# Altium footprint library inductor_smd.PcbLib: 24 footprints (part 1 of 2)
Each footprint in its own frame and in the unit in brackets; x right, y up, seen from the top. Pads: shape width x height; smd on the part's side, far side on the other; paste and mask are expansions set on the pad; w line width, h text height; cw(c..) or ccw(c..) is an arc to the next point about the centre after c.
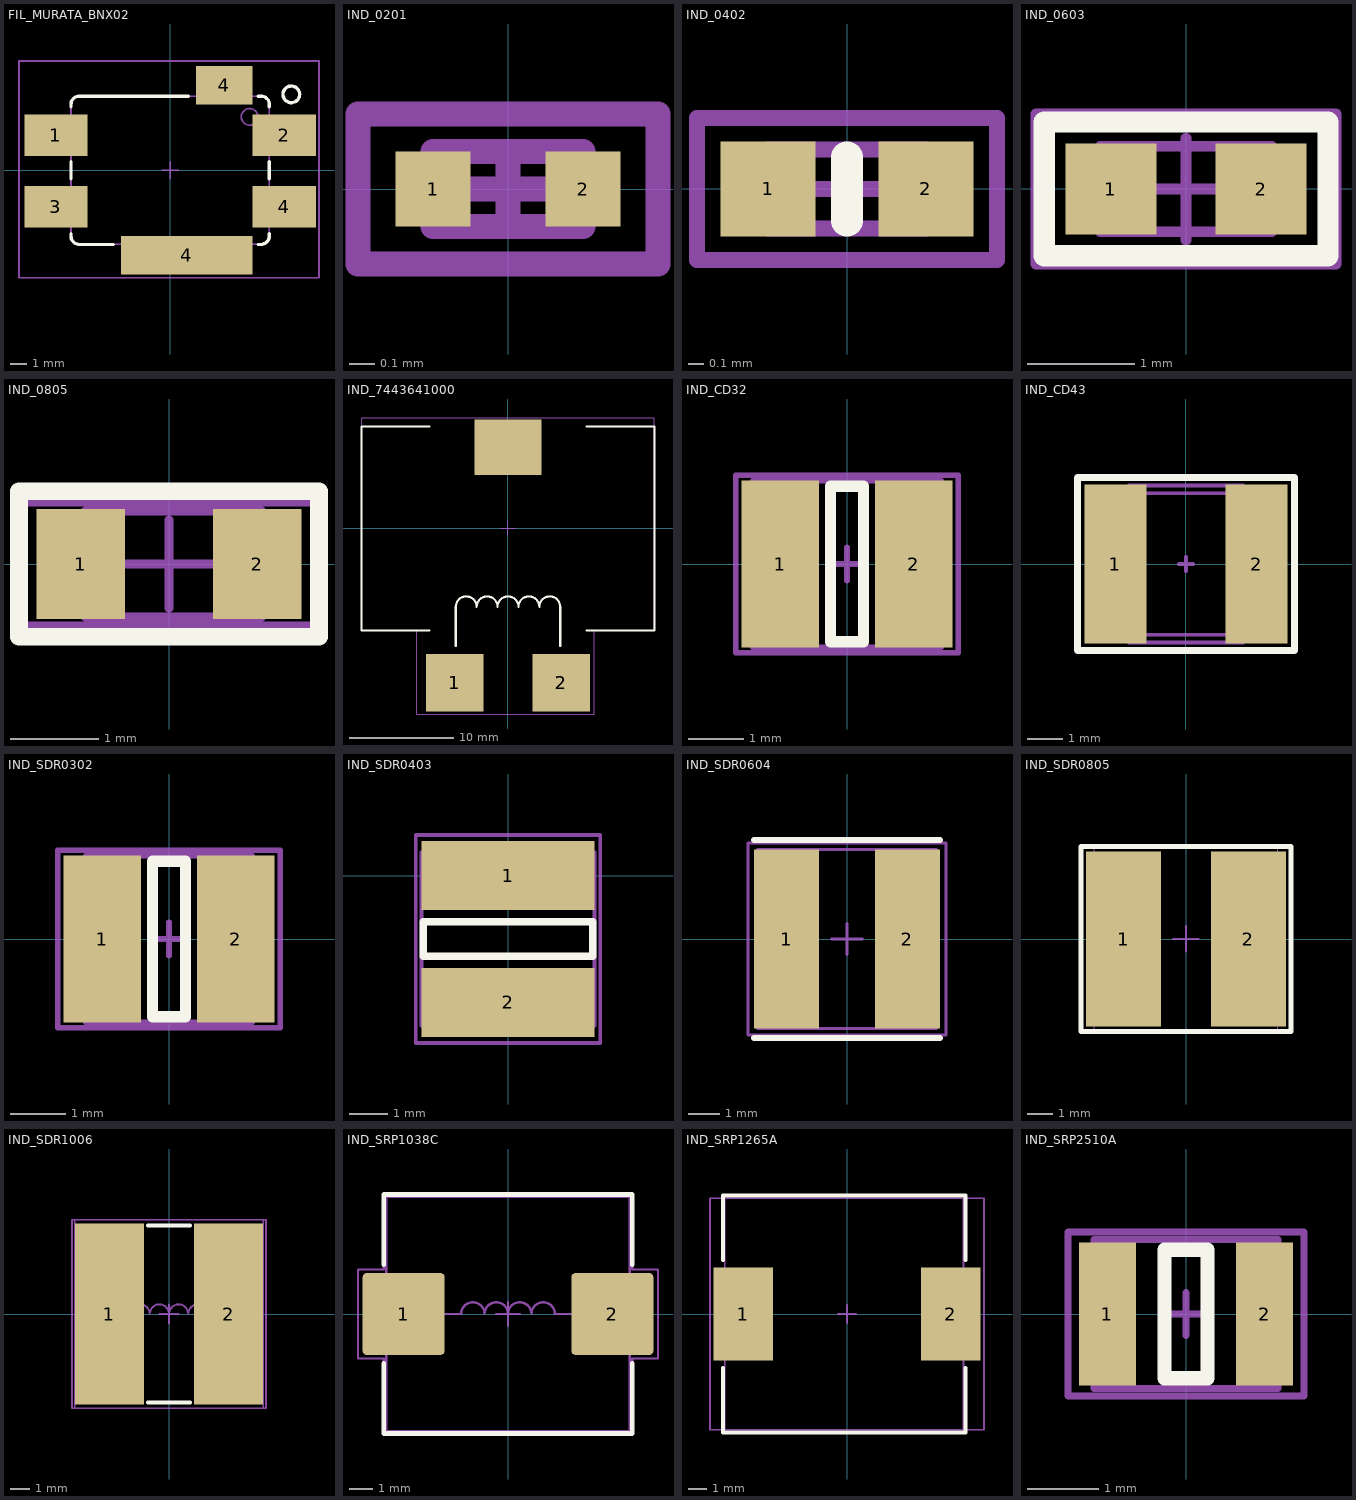
[diagram p0: the footprints below, top view; thin cyan lines are the x and y axes]

## FIL_MURATA_BNX02 [mm] "Block Type EMIFIL LC Combined Type, BNX02* Series"
height 3.3
pads (6):
  rect 3.8x2.5 smd: 1(-6.85,2.1) 2(6.85,2.1) 3(-6.85,-2.2) 4(6.85,-2.2)
  rect 7.9x2.3 smd: 4(1,-5.1)
  rect 3.4x2.3 smd: 4(3.25,5.1)
Top Overlay:
  circle w0.2: c7.268,4.554 r0.5
  lines w0.2: -5.95,-3.8 -5.95,-3.95 ccw(c-5.45,-3.95) -5.45,-4.45 -3.42,-4.45 ; -5.95,-0.5 -5.95,0.5 ; -5.95,3.8 -5.95,3.95 cw(c-5.45,3.95) -5.45,4.45 1.08,4.45 ; 5.28,-4.45 5.45,-4.45 ccw(c5.45,-3.95) 5.95,-3.95 5.95,-3.8 ; 5.28,4.45 5.45,4.45 cw(c5.45,3.95) 5.95,3.95 5.95,3.8 ; 5.95,-0.5 5.95,0.5
Mechanical 1:
  circle w0.1: c4.768,3.204 r0.5
  lines w0.1: -5.95,-2.75 -6.05,-2.75 -6.05,-1.45 -5.95,-1.45 ; -5.95,1.45 -6.05,1.45 -6.05,2.75 -5.95,2.75 ; -2.5,-4.45 -2.5,-4.55 4.5,-4.55 4.5,-4.45 ; 2,4.45 2,4.55 4.5,4.55 4.5,4.45 ; 5.95,-2.75 6.05,-2.75 6.05,-1.45 5.95,-1.45 ; 5.95,1.45 6.05,1.45 6.05,2.75 5.95,2.75 ; -5.95,-3.95 ccw(c-5.45,-3.95) -5.45,-4.45 5.45,-4.45 ccw(c5.45,-3.95) 5.95,-3.95 5.95,3.95 ccw(c5.45,3.95) 5.45,4.45 -5.45,4.45 ccw(c-5.45,3.95) -5.95,3.95 -5.95,-3.95
Mechanical 15:
  lines w0.1: -0.5,0 0,0 ; 0,-0.5 0,0 ; 0,0.5 0,0 ; 0.5,0 0,0 ; -9.07,-6.45 -9.07,6.55 8.93,6.55 8.93,-6.45 -9.07,-6.45
3D body "FIL_MURATA_BNX02.stp": height 3.1, standoff 0, extent -6.05,-4.55 6.05,4.55

## IND_0201 [mm]
height 0.3
pads (2):
  rect 0.3x0.3 smd: 1(-0.3,0) 2(0.3,0)
Mechanical 1:
  lines w0.1: -0.3,-0.15 -0.3,0.15 0.3,0.15 0.3,-0.15 -0.3,-0.15
Mechanical 15:
  lines w0.1: -0.15,0 0.15,0 ; 0,-0.15 0,0.15 ; -0.6,-0.3 -0.6,0.3 0.6,0.3 0.6,-0.3 -0.6,-0.3
3D body "INDC0603.step": height 0.3, standoff 0, extent -0.3,-0.15 0.3,0.15

## IND_0402 [mm]
height 0.5
pads (2):
  rect 0.6x0.6 smd: 1(-0.5,0) 2(0.5,0)
Top Overlay:
  lines w0.2: 0,-0.2 0,0.2
Mechanical 1:
  lines w0.1: -0.5,-0.25 0.5,-0.25 0.5,0.25 -0.5,0.25 -0.5,-0.25
Mechanical 15:
  lines w0.1: -0.25,0 0.25,0 ; 0,-0.25 0,0.25 ; -0.95,-0.45 0.95,-0.45 0.95,0.45 -0.95,0.45 -0.95,-0.45
3D body "Chip2PinSM127P600-8N.step": height 0.5, standoff 0, extent -0.5,-0.25 0.5,0.25

## IND_0603 [mm]
height 0.8
pads (2):
  rect 0.85x0.85 smd: 1(-0.7,0) 2(0.7,0)
Top Overlay:
  lines w0.2: -1.325,-0.625 1.325,-0.625 1.325,0.625 -1.325,0.625 -1.325,-0.625
Mechanical 1:
  lines w0.1: -0.8,-0.4 0.8,-0.4 0.8,0.4 -0.8,0.4 -0.8,-0.4
Mechanical 15:
  lines w0.1: -0.475,0 0.475,0 ; 0,-0.475 0,0.475 ; -1.4,-0.7 -1.4,0.7 1.4,0.7 1.4,-0.7 -1.4,-0.7
3D body "Chip2PinSM127P600-8N.step": height 0.8, standoff 0, extent -0.8,-0.4 0.8,0.4

## IND_0805 [mm]
height 1
pads (2):
  rect 1x1.25 smd: 1(-1,0) 2(1,0)
Top Overlay:
  lines w0.2: -1.7,-0.825 -1.7,0.825 1.7,0.825 1.7,-0.825 -1.7,-0.825
Mechanical 1:
  lines w0.1: -0.949,-0.6 -0.949,0.6 1.05,0.6 1.05,-0.6 -0.949,-0.6
Mechanical 15:
  lines w0.1: -0.5,0 0.5,0 ; 0,-0.5 0,0.5 ; -1.7,-0.7 1.7,-0.7 1.7,0.7 -1.7,0.7 -1.7,-0.7
3D body "User Library-FB_2012-1.STEP": height 0.85, standoff 0, extent -1,-0.625 1,0.625

## IND_7443641000 [mm]
height 3.2
pads (3):
  rect 5.5x5.5 smd: 1(-5.1,-14.75) 2(5.1,-14.75)
  rect 6.4x5.3 smd: ""(0,7.75)
Top Overlay:
  lines w0.2: -7.5,-9.75 -14,-9.75 -14,9.75 -7.5,9.75 ; -5,-11.25 -5,-7.5 cw(c-4,-7.5) -3,-7.5 cw(c-2,-7.5) -1,-7.5 cw(c0,-7.5) 1,-7.5 cw(c2,-7.5) 3,-7.5 cw(c4,-7.5) 5,-7.5 5,-11.25 ; 7.5,-9.75 14,-9.75 14,9.75 7.5,9.75
Mechanical 1:
  lines w0.1: -14,-9.75 -8.75,-9.75 -8.75,-17.75 8.25,-17.75 8.25,-9.75 14,-9.75 14,10.6 -14,10.6 -14,-9.75
Mechanical 15:
  lines w0.1: -0.75,0 0.75,0 ; 0,-0.75 0,0.75 ; -14,-9.75 -8.75,-9.75 -8.75,-17.75 8.25,-17.75 8.25,-9.75 14,-9.75 14,10.6 -14,10.6 -14,-9.75
3D body "STEP-WE-HCF-2818-rev1.stp": height 18.55, standoff 0.03, extent -14,-16.4 14,10.6

## IND_CD32 [mm]
pads (2):
  rect 1.4x3 smd mask+0.075: 1(-1.2,0) 2(1.2,0)
Top Overlay:
  lines w0.2: -0.3,-1.4 0.3,-1.4 0.3,1.4 -0.3,1.4 -0.3,-1.4
Mechanical 13:
  lines w0.1: -1.7,-1.5 1.7,-1.5 1.7,1.5 -1.7,1.5 -1.7,-1.5
Mechanical 15:
  lines w0.1: -0.3,0 0.3,0 ; 0,-0.3 0,0.3 ; -2,-1.6 -2,1.6 2,1.6 2,-1.6 -2,-1.6
3D body "Inductor_CD32.STEP": height 2.1, standoff 0, extent -1.679,-1.5 1.679,1.5

## IND_CD43 [mm]
height 3.2
pads (2):
  rect 1.75x4.5 smd: 1(-2,0) 2(2,0)
Top Overlay:
  lines w0.2: -3.075,-2.45 3.075,-2.45 3.075,2.45 -3.075,2.45 -3.075,-2.45
Mechanical 1:
  lines w0.1: -1.5,-2 cw(c0,0) -1.5,2 1.5,2 cw(c0,0) 1.5,-2 -1.5,-2
Mechanical 15:
  lines w0.1: -0.2,0 0.2,0 ; 0,-0.2 0,0.2 ; -1.617,-2.224 cw(c0,0) -1.617,2.224 1.617,2.224 cw(c0,0) 1.617,-2.224 -1.617,-2.224
3D body "CD43.STEP": height 3.2, standoff 0, extent -2.244,-2 2.244,2

## IND_SDR0302 [mm]
pads (2):
  rect 1.4x3 smd mask+0.075: 1(-1.2,0) 2(1.2,0)
Top Overlay:
  lines w0.2: -0.3,-1.4 0.3,-1.4 0.3,1.4 -0.3,1.4 -0.3,-1.4
Mechanical 13:
  lines w0.1: -1.5,-1.5 1.5,-1.5 1.5,1.5 -1.5,1.5 -1.5,-1.5
Mechanical 15:
  lines w0.1: -0.3,0 0.3,0 ; 0,-0.3 0,0.3 ; -2,-1.6 -2,1.6 2,1.6 2,-1.6 -2,-1.6
3D body "User Library-SDR0302.STEP": height 3, standoff 0, extent -1.492,-1.5 1.492,1.5

## IND_SDR0403 [mm]
pads (2):
  rect 4.5x1.8 smd: 1(0,0) 2(0,-3.3)
Top Overlay:
  lines w0.2: -2.2,-2.1 2.2,-2.1 2.2,-1.2 -2.2,-1.2 -2.2,-2.1
Mechanical 1:
  lines w0.1: -2.25,-3.9 -2.25,0.25 -2.25,0.6 2.25,0.6 2.25,-3.9 -2.25,-3.9
Mechanical 15:
  lines w0.1: -2.4,-4.35 2.4,-4.35 2.4,1.05 -2.4,1.05 -2.4,-4.35
3D body "User Library-SDR0403.STEP": height 3.5, standoff 0, extent -2.25,-3.9 2.25,0.6

## IND_SDR0604 [mm]
pads (2):
  rect 2.1x5.8 smd: 1(-1.95,0) 2(1.95,0)
Top Overlay:
  lines w0.2: -3,-3.2 3,-3.2 ; -3,3.2 3,3.2
Mechanical 1:
  lines w0.1: -2.9,-2.9 -2.9,2.9 2.9,2.9 2.9,-2.9 -2.9,-2.9
Mechanical 15:
  lines w0.1: -0.5,0 0.5,0 ; 0,-0.5 0,0.5 ; -3.2,-3.1 -3.2,3.1 3.2,3.1 3.2,-3.1 -3.2,-3.1
3D body "SDR0604.STEP": height 4.8, standoff 0, extent -2.9,-2.9 2.9,2.9

## IND_SDR0805 [mm]
height 5.3
pads (2):
  rect 3x7 smd: 1(-2.5,0) 2(2.5,0)
Top Overlay:
  lines w0.2: -4.2,-3.7 4.2,-3.7 4.2,3.7 -4.2,3.7 -4.2,-3.7
Mechanical 1:
  lines w0.05: -3.675,-3.75 3.675,-3.75 3.675,3.75 -3.675,3.75 -3.675,-3.75
Mechanical 15:
  lines w0.1: -0.5,0 0.5,0 ; 0,-0.5 0,0.5 ; -4.2,-3.7 -4.2,3.725 4.2,3.725 4.2,-3.7 -4.2,-3.7
3D body "SDR0805.STEP": height 5.08, standoff 0.03, extent -3.677,-3.75 3.677,3.75

## IND_SDR1006 [mm]
pads (2):
  rect 3.6x9.4 smd: 1(-3.1,0) 2(3.1,0)
Top Overlay:
  lines w0.2: -1.1,-4.6 1.1,-4.6 ; -1.1,4.6 1.1,4.6
Mechanical 1:
  lines w0.1: -4.2,0 -3,0 cw(c-2.5,0) -2,0 cw(c-1.5,0) -1,0 cw(c-0.5,0) 0,0 cw(c0.5,0) 1,0 cw(c1.5,0) 2,0 cw(c2.5,0) 3,0 4.2,0 ; -4.9,-4.9 4.9,-4.9 4.9,4.9 -4.9,4.9 -4.9,-4.9
Mechanical 15:
  lines w0.1: -0.5,0 0.5,0 ; 0,-0.5 0,0.5 ; -5.05,-4.9 -5.05,4.9 5.05,4.9 5.05,-4.9 -5.05,-4.9
3D body "SDR1006.STEP": height 5.8, standoff 0, extent -4.9,-4.9 4.9,4.9

## IND_SRP1038C [mm]
pads (2):
  rrect10% 3.5x3.5 smd mask+0.102: 1(-4.45,0) 2(4.45,0)
Top Overlay:
  lines w0.2: -5.3,-2.1 -5.3,-5.1 5.3,-5.1 5.3,-2.1 ; -5.3,2.1 -5.3,5.1 5.3,5.1 5.3,2.1
Mechanical 1:
  lines w0.1: -4,0 -2,0 cw(c-1.5,0) -1,0 cw(c-0.5,0) 0,0 cw(c0.5,0) 1,0 cw(c1.5,0) 2,0 4,0 ; -5.2,-5 5.2,-5 5.2,5 -5.2,5 -5.2,-5
Mechanical 15:
  lines w0.1: -0.5,0 0.5,0 ; 0,-0.5 0,0.5 ; -6.4,-1.9 -6.4,1.9 -5.3,1.9 -5.3,5.1 5.3,5.1 5.3,1.9 6.4,1.9 6.4,-1.9 5.3,-1.9 5.3,-5.1 -5.3,-5.1 -5.3,-1.9 -6.4,-1.9
3D body "SRP1038A.STEP": height 3.8, standoff 0.05, extent -5.2,-5 5.2,5

## IND_SRP1265A [mm]
pads (2):
  rect 3.2x5 smd: 1(-5.6,0) 2(5.6,0)
Top Overlay:
  lines w0.2: -6.7,-2.9 -6.7,-6.4 6.4,-6.4 6.4,-2.9 ; -6.7,2.9 -6.7,6.4 6.4,6.4 6.4,2.9
Mechanical 1:
  lines w0.1: -6.6,-6.25 6.3,-6.25 6.3,6.25 -6.6,6.25 -6.6,-6.25
Mechanical 15:
  lines w0.1: -0.5,0 0.5,0 ; 0,-0.5 0,0.5 ; -7.4,-6.25 7.4,-6.25 7.4,6.25 -7.4,6.25 -7.4,-6.25
3D body "SRP1265A series.stp": height 6.31, standoff 0, extent -6.6,-6.25 6.3,6.25

## IND_SRP2510A [mm]
pads (2):
  rect 0.8x2 smd: 1(-1.1,0) 2(1.1,0)
Top Overlay:
  lines w0.2: -0.3,-0.9 -0.3,0.9 0.3,0.9 0.3,-0.9 -0.3,-0.9
Mechanical 1:
  lines w0.1: -1.285,-1.045 -1.285,1.045 1.285,1.045 1.285,-1.045 -1.285,-1.045
Mechanical 15:
  lines w0.1: -0.3,0 0.3,0 ; 0,-0.3 0,0.3 ; -1.65,-1.15 -1.65,1.15 1.65,1.15 1.65,-1.15 -1.65,-1.15
3D body "666.step": height 0.97, standoff 0.01, extent -1.285,-1.045 1.285,1.045